# Altium integrated library SparkFun Electronics Biometrics.IntLib: 1 symbol
Pins are listed as number, name and electrical type; pins without a type are passive.

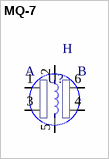
[diagram p0: symbol MQ-7]

## MQ-7
designator U?
This is a simple-to-use Carbon Monoxide (CO) sensor, suitable for sensing CO concentrations in the air. The MQ-7 can detect CO-gas concentrations anywhere from 20 to 2000ppm.; Manufacturer: SparkFun Electronics; PartNumber: SEN-09403; Package: MQ-7; PackageDescription: Cylinder, 6-Pin Through Hole; Supplier 1: Digi-Key; Supplier Part Number 1: SEN-09403-ND
footprint MQ-7 (Cylinder, 6-Pin Through Hole)
pins: 1, 2 Vcc, 3, 4, 5, 6
text: H; A; B